# EAGLE library part CART-72 (library TinyNES_Library)
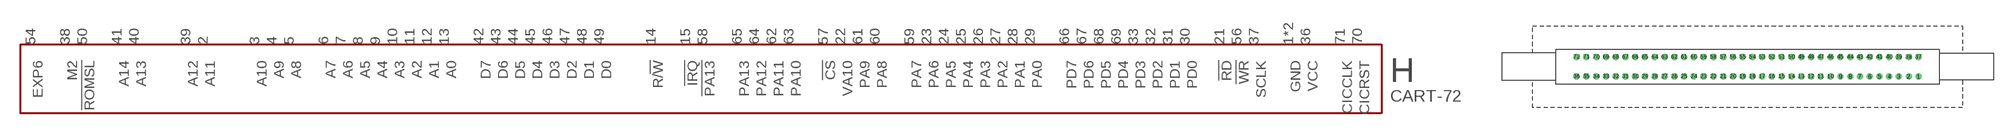
[diagram p0: symbol with the pads of CART-72-2.50-CONN-VERT; footprint CART-72-2.50-CONN-VERT]

Designator prefix H

## CART-72-CONN-VERT  [CART-72-2.50-CONN-VERT]
1  GND
2  A11
3  A10
4  A9
5  A8
6  A7
7  A6
8  A5
9  A4
10  A3
11  A2
12  A1
13  A0
14  R/!W
15  !IRQ
21  !RD
22  VA10
23  PA6
24  PA5
25  PA4
26  PA3
27  PA2
28  PA1
29  PA0
30  PD0
31  PD1
32  PD2
33  PD3
36  VCC
37  SCLK
38  M2
39  A12
40  A13
41  A14
42  D7
43  D6
44  D5
45  D4
46  D3
47  D2
48  D1
49  D0
50  !ROMSL
54  EXP6
56  !WR
57  !CS
58  !PA13
59  PA7
60  PA8
61  PA9
62  PA11
63  PA10
64  PA12
65  PA13
66  PD7
67  PD6
68  PD5
69  PD4
70  CICRST
71  CICCLK
72  GND

## Footprint CART-72-2.50-CONN-VERT (pad centres in mm)
drill 0.8 pad 1.6: 1 43.75,-2.5; 2 41.25,-2.5; 3 38.75,-2.5; 4 36.25,-2.5; 5 33.75,-2.5; 6 31.25,-2.5; 7 28.75,-2.5; 8 26.25,-2.5; 9 23.75,-2.5; 10 21.25,-2.5; 11 18.75,-2.5; 12 16.25,-2.5; 13 13.75,-2.5; 14 11.25,-2.5; 15 8.75,-2.5; 16 6.25,-2.5; 17 3.75,-2.5; 18 1.25,-2.5; 19 -1.25,-2.5; 20 -3.75,-2.5; 21 -6.25,-2.5; 22 -8.75,-2.5; 23 -11.25,-2.5; 24 -13.75,-2.5; 25 -16.25,-2.5; 26 -18.75,-2.5; 27 -21.25,-2.5; 28 -23.75,-2.5; 29 -26.25,-2.5; 30 -28.75,-2.5; 31 -31.25,-2.5; 32 -33.75,-2.5; 33 -36.25,-2.5; 34 -38.75,-2.5; 35 -41.25,-2.5; 36 -43.75,-2.5; 37 43.75,2.5; 38 41.25,2.5; 39 38.75,2.5; 40 36.25,2.5; 41 33.75,2.5; 42 31.25,2.5; 43 28.75,2.5; 44 26.25,2.5; 45 23.75,2.5; 46 21.25,2.5; 47 18.75,2.5; 48 16.25,2.5; 49 13.75,2.5; 50 11.25,2.5; 51 8.75,2.5; 52 6.25,2.5; 53 3.75,2.5; 54 1.25,2.5; 55 -1.25,2.5; 56 -3.75,2.5; 57 -6.25,2.5; 58 -8.75,2.5; 59 -11.25,2.5; 60 -13.75,2.5; 61 -16.25,2.5; 62 -18.75,2.5; 63 -21.25,2.5; 64 -23.75,2.5; 65 -26.25,2.5; 66 -28.75,2.5; 67 -31.25,2.5; 68 -33.75,2.5; 69 -36.25,2.5; 70 -38.75,2.5; 71 -41.25,2.5; 72 -43.75,2.5